# EAGLE library part TS3L301DGGR (library alvie)
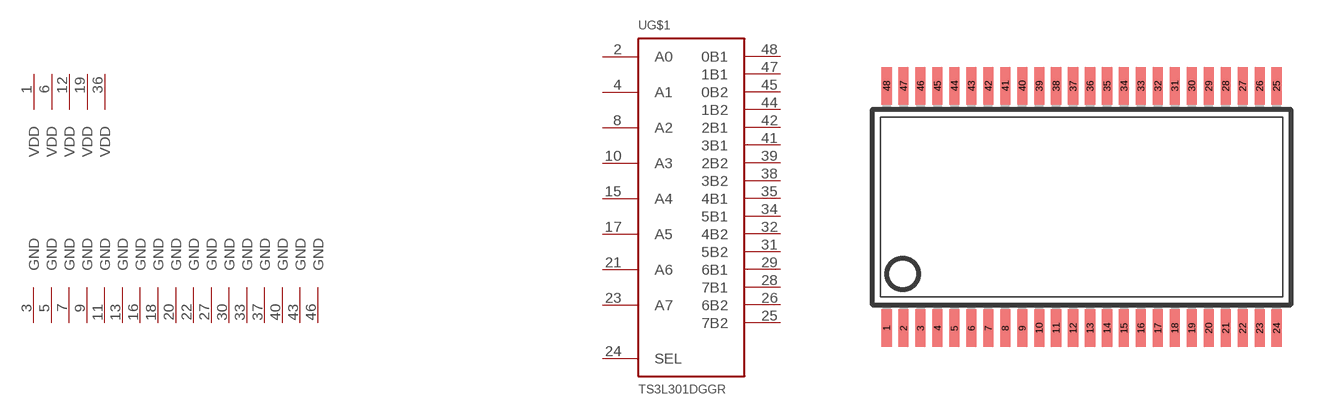
[diagram p22: symbol with the pads of TSSOP48; footprint TSSOP48]

Designator prefix -; gates G$1=TS3L301 G$2=TS3L301-PWR

## TS3L301DGGR  [TSSOP48]
1  G$2:VDD  pwr
2  G$1:A0
3  G$2:GND  pwr
4  G$1:A1
5  G$2:GND  pwr
6  G$2:VDD  pwr
7  G$2:GND  pwr
8  G$1:A2
9  G$2:GND  pwr
10  G$1:A3
11  G$2:GND  pwr
12  G$2:VDD  pwr
13  G$2:GND  pwr
15  G$1:A4
16  G$2:GND  pwr
17  G$1:A5
18  G$2:GND  pwr
19  G$2:VDD  pwr
20  G$2:GND  pwr
21  G$1:A6
22  G$2:GND  pwr
23  G$1:A7
24  G$1:SEL  in
25  G$1:7B2
26  G$1:6B2
27  G$2:GND  pwr
28  G$1:7B1
29  G$1:6B1
30  G$2:GND  pwr
31  G$1:5B2
32  G$1:4B2
33  G$2:GND  pwr
34  G$1:5B1
35  G$1:4B1
36  G$2:VDD  pwr
37  G$2:GND  pwr
38  G$1:3B2
39  G$1:2B2
40  G$2:GND  pwr
41  G$1:3B1
42  G$1:2B1
43  G$2:GND  pwr
44  G$1:1B2
45  G$1:0B2
46  G$2:GND  pwr
47  G$1:1B1
48  G$1:0B1

## Footprint TSSOP48 (pad centres in mm)
smd 0.3 x 1.1: 1 -5.75,-3.575; 2 -5.25,-3.575; 3 -4.75,-3.575; 4 -4.25,-3.575; 5 -3.75,-3.575; 6 -3.25,-3.575; 7 -2.75,-3.575; 8 -2.25,-3.575; 9 -1.75,-3.575; 10 -1.25,-3.575; 11 -0.75,-3.575; 12 -0.25,-3.575; 13 0.25,-3.575; 14 0.75,-3.575; 15 1.25,-3.575; 16 1.75,-3.575; 17 2.25,-3.575; 18 2.75,-3.575; 19 3.25,-3.575; 20 3.75,-3.575; 21 4.25,-3.575; 22 4.75,-3.575; 23 5.25,-3.575; 24 5.75,-3.575; 25 5.75,3.575; 26 5.25,3.575; 27 4.75,3.575; 28 4.25,3.575; 29 3.75,3.575; 30 3.25,3.575; 31 2.75,3.575; 32 2.25,3.575; 33 1.75,3.575; 34 1.25,3.575; 35 0.75,3.575; 36 0.25,3.575; 37 -0.25,3.575; 38 -0.75,3.575; 39 -1.25,3.575; 40 -1.75,3.575; 41 -2.25,3.575; 42 -2.75,3.575; 43 -3.25,3.575; 44 -3.75,3.575; 45 -4.25,3.575; 46 -4.75,3.575; 47 -5.25,3.575; 48 -5.75,3.575